# Altium footprint library DA100J.PcbLib: 1 footprints
Each footprint in its own frame and in the unit in brackets; x right, y up, seen from the top. Pads: shape width x height; smd on the part's side, far side on the other; paste and mask are expansions set on the pad; w line width, h text height; cw(c..) or ccw(c..) is an arc to the next point about the centre after c.
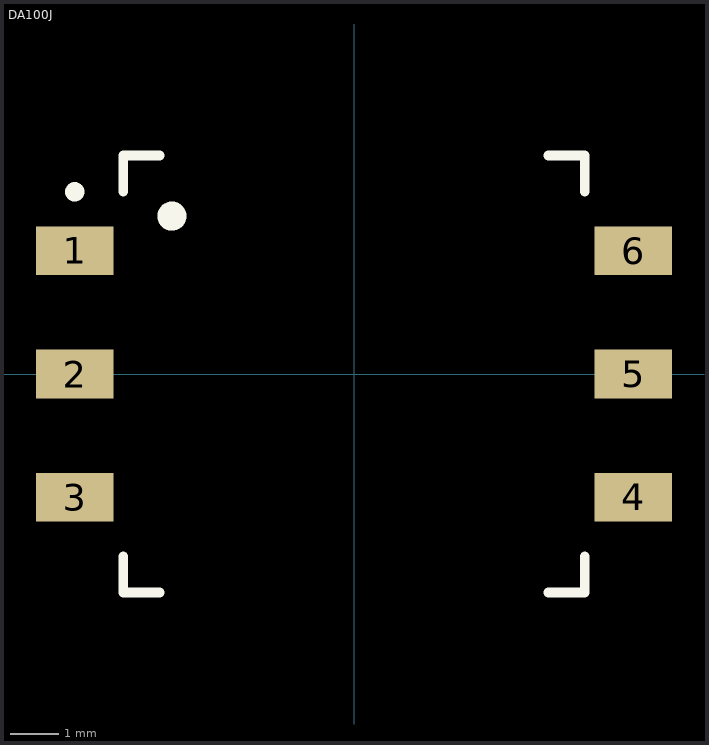
[diagram p0: the footprint, top view; thin cyan lines are the x and y axes]

## DA100J [mm] "Murata DA100J Pulse Transformer Series"
pads (6):
  rect 1.6x1 smd: 1(-5.75,2.54) 2(-5.75,0) 3(-5.75,-2.54) 4(5.75,-2.54) 5(5.75,0) 6(5.75,2.54)
Top Overlay:
  circle w0.2: c-5.75,3.75 r0.1
  circle w0.3: c-3.75,3.25 r0.15
  lines w0.2: -4.75,-3.75 -4.75,-4.5 -4,-4.5 ; -4.75,3.75 -4.75,4.5 -4,4.5 ; 4,-4.5 4.75,-4.5 4.75,-3.75 ; 4,4.5 4.75,4.5 4.75,3.75
3D body: height 6.5, standoff 0, extent -4.75,-4.5 4.75,4.5